# Altium schematic symbol library STM32G0.SchLib: 1 symbol
Pins are listed as number, name and electrical type; pins without a type are passive.

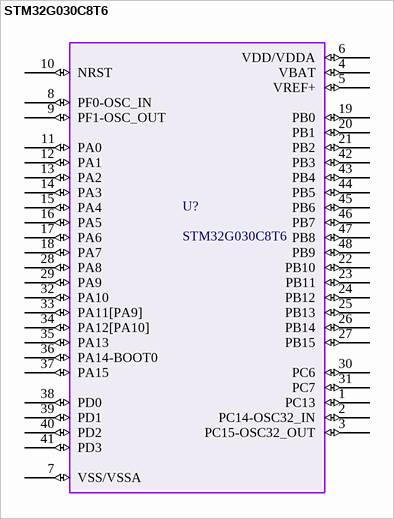
[diagram p0: symbol STM32G030C8T6]

## STM32G030C8T6
designator U?
footprint QFN48_7*7M (QFN, 48-Leads, Body 7x7mm, Pitch 0.5mm, IPC Low Density)
footprint QFN48_7*7L (QFN, 48-Leads, Body 7x7mm, Pitch 0.5mm, IPC High Density)
footprint QFN48_7*7N (QFN, 48-Leads, Body 7x7mm, Pitch 0.5mm, IPC Medium Density)
footprint LQFP48 7X7_N (48½Å£¬Ìå¿í7x7mm£¬½Å¾à0.5mm)
footprint LQFP48 7X7_M (48½Å£¬Ìå¿í7x7mm£¬½Å¾à0.5mm)
footprint LQFP48 7X7_L (48½Å£¬Ìå¿í7x7mm£¬½Å¾à0.5mm)
pins: 1 PC13 (io), 2 PC14-OSC32_IN (io), 3 PC15-OSC32_OUT (io), 4 VBAT (io), 5 VREF+ (io), 6 VDD/VDDA (io), 7 VSS/VSSA (io), 8 PF0-OSC_IN (io), 9 PF1-OSC_OUT (io), 10 NRST (io), 11 PA0 (io), 12 PA1 (io), 13 PA2 (io), 14 PA3 (io), 15 PA4 (io), 16 PA5 (io), 17 PA6 (io), 18 PA7 (io), 19 PB0 (io), 20 PB1 (io), 21 PB2 (io), 22 PB10 (io), 23 PB11 (io), 24 PB12 (io), 25 PB13 (io), 26 PB14 (io), 27 PB15 (io), 28 PA8 (io), 29 PA9 (io), 30 PC6 (io), 31 PC7 (io), 32 PA10 (io), 33 PA11[PA9] (io), 34 PA12[PA10] (io), 35 PA13 (io), 36 PA14-BOOT0 (io), 37 PA15 (io), 38 PD0 (io), 39 PD1 (io), 40 PD2 (io), 41 PD3 (io), 42 PB3 (io), 43 PB4 (io), 44 PB5 (io), 45 PB6 (io), 46 PB7 (io), 47 PB8 (io), 48 PB9 (io)